# Altium footprint library CL10B104KB8NNWC 0.1uF 0603.PcbLib: 1 footprints
Each footprint in its own frame and in the unit in brackets; x right, y up, seen from the top. Pads: shape width x height; smd on the part's side, far side on the other; paste and mask are expansions set on the pad; w line width, h text height; cw(c..) or ccw(c..) is an arc to the next point about the centre after c.
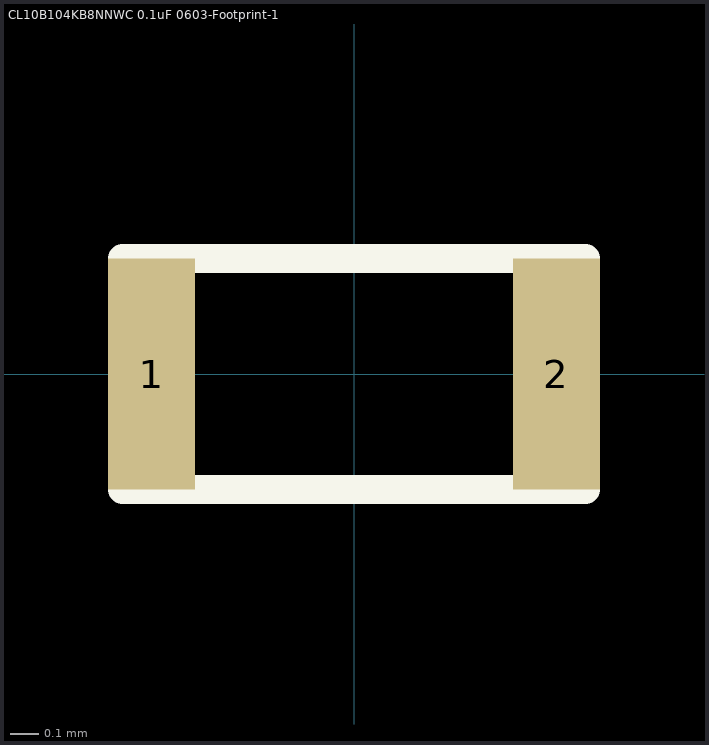
[diagram p0: the footprint, top view; thin cyan lines are the x and y axes]

## CL10B104KB8NNWC 0.1uF 0603-Footprint-1 [mm]
pads (2):
  rect 0.3x0.8 smd: 1(-0.7,0) 2(0.7,0)
Top Overlay:
  lines w0.1: -0.8,-0.4 -0.8,0.4 0.8,0.4 0.8,-0.4 -0.8,-0.4
3D body "Cap_Samsung_CL10B104KB8NNWC_eec.STEP": height 0.9, standoff 0, extent -0.8,-0.4 0.8,0.4